# EAGLE library part ZX62D-B-5PA8 (library IoTMakers)
CONN RCPT USB
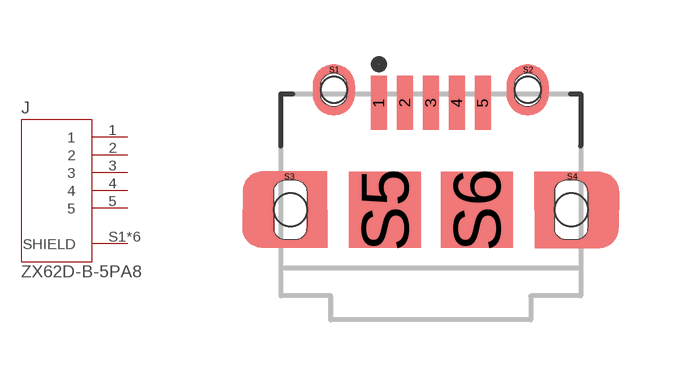
[diagram p22: symbol with the pads of HIROSE_ZX62D-B-5PA8; footprint HIROSE_ZX62D-B-5PA8]

Designator prefix J

## ZX62D-B-5PA8 (AVAILABILITY: Unavailable; DESCRIPTION: 5 Pin Single Port USB 2.0 Micro B Bottom Mount Through Hole Receptacle Male; MF: Hirose; MP: ZX62D-B-5PA8; PACKAGE: None; PRICE: None)  [HIROSE_ZX62D-B-5PA8]
1  1  pas
2  2  pas
3  3  pas
4  4  pas
5  5  pas
S1  SHIELD  pwr
S2  SHIELD  pwr
S3  SHIELD  pwr
S4  SHIELD  pwr
S5  SHIELD  pwr
S6  SHIELD  pwr

## Footprint HIROSE_ZX62D-B-5PA8 (pad centres in mm)
smd 0.4 x 1.35: 1 -1.3,2.675; 2 -0.65,2.675; 3 0,2.675; 4 0.65,2.675; 5 1.3,2.675
smd 0.1 x 0.1: S1 -2.413,3.508; S2 2.437,3.508; S3 -3.538,0.839; S4 3.538,0.839
smd 1.8 x 1.9: S5 -1.15,0; S6 1.15,0
hole 0.65 at -2.425,3
hole 0.65 at 2.425,3
hole 0.825 at -3.513,0
hole 0.825 at 3.513,0